# Altium footprint library Smartstrap_with_MAX30205.PcbLib: 21 footprints (part 2 of 2)
Each footprint in its own frame and in the unit in brackets; x right, y up, seen from the top. Pads: shape width x height; smd on the part's side, far side on the other; paste and mask are expansions set on the pad; w line width, h text height; cw(c..) or ccw(c..) is an arc to the next point about the centre after c.
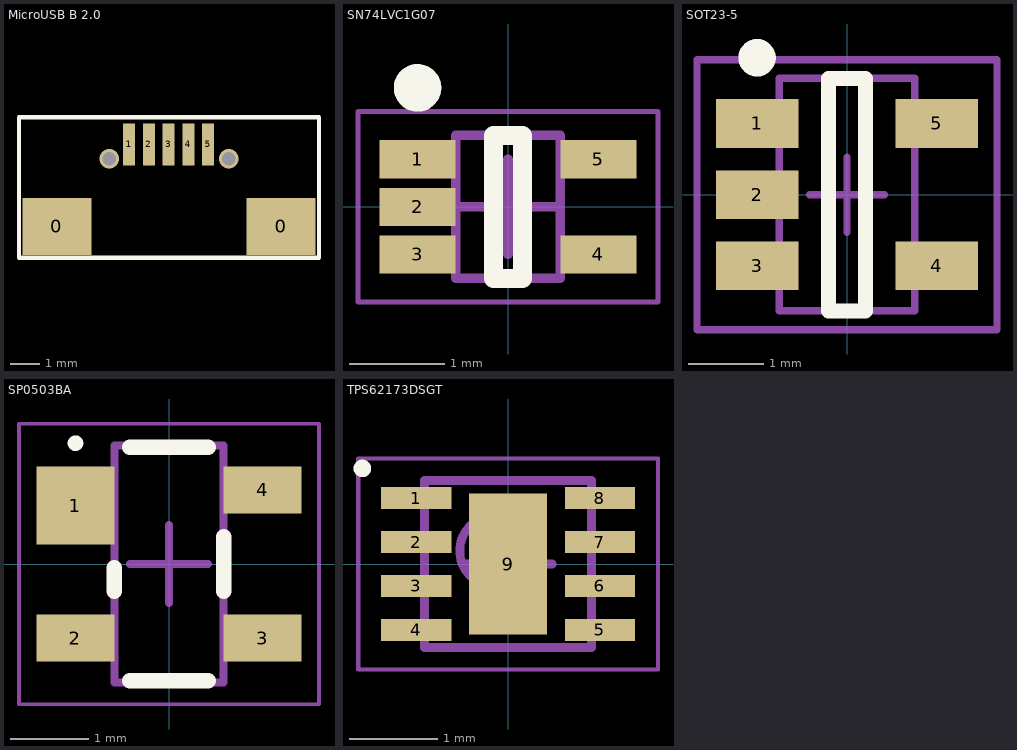
[diagram p1: the footprints below, top view; thin cyan lines are the x and y axes]

## MicroUSB B 2.0 [mm]
pads (7):
  rect 2.3x1.9 smd: 0(-98.933,-99.136) 0(-91.44,-99.136)
  rect 0.4x1.4 smd: 1(-96.52,-96.393) 2(-95.86,-96.393) 3(-95.199,-96.393) 4(-94.539,-96.393) 5(-93.878,-96.393)
via -97.18,-96.876 diameter 0.65 hole 0.45
via -93.193,-96.876 diameter 0.65 hole 0.45
Top Overlay:
  lines w0.15: -100.203,-100.178 -100.203,-95.479 -90.17,-95.479 -90.17,-100.178 -100.203,-100.178
3D body "User Library-MicroAB.STEP": height 2.89, standoff -0.11, extent -99.599,-101.993 -90.799,-96.393

## SN74LVC1G07 [mm] "SOT23, 5-Leads, Body 1,60x1,85mm, Pitch 0,50mm, IPC Medium Density"
height 0.6
pads (5):
  rect 0.8x0.4 smd: 1(-0.95,0.5) 2(-0.95,0) 3(-0.95,-0.5) 4(0.95,-0.5) 5(0.95,0.5)
Top Overlay:
  circle w0.25: c-0.95,1.25 r0.125
  lines w0.2: -0.15,-0.75 -0.15,0.75 0.15,0.75 0.15,-0.75 -0.15,-0.75
Mechanical 13:
  lines w0.1: -0.55,-0.75 0.55,-0.75 0.55,0.75 -0.55,0.75 -0.55,-0.75
Mechanical 15:
  lines w0.05: -1.575,-1 1.575,-1 1.575,1 -1.575,1 -1.575,-1
  lines w0.1: -0.5,0 0.5,0 ; 0,-0.5 0,0.5
3D body: height 0.6, standoff 0.18, extent -0.55,-0.75 0.55,0.75

## SOT23-5 [mm] "SOT23, 5-Leads, Body 2.9x1.6mm, Pitch 0.95mm, Lead Span 2.8mm, IPC Medium Density"
height 1.1
pads (5):
  rect 1.1x0.65 smd: 1(-1.2,0.95) 2(-1.2,0) 3(-1.2,-0.95) 4(1.2,-0.95) 5(1.2,0.95)
Top Overlay:
  circle w0.25: c-1.2,1.825 r0.125
  lines w0.2: -0.25,-1.55 0.25,-1.55 0.25,1.55 -0.25,1.55 -0.25,-1.55
Mechanical 13:
  lines w0.1: -0.9,-1.55 -0.9,1.55 0.9,1.55 0.9,-1.55 -0.9,-1.55
Mechanical 15:
  lines w0.1: -0.5,0 0.5,0 ; 0,-0.5 0,0.5 ; -2,-1.8 -2,1.8 2,1.8 2,-1.8 -2,-1.8
3D body "SW3dPS-TSOT23-5.STEP": height 0.94, standoff -0.02, extent -1.535,-1.46 1.655,1.44

## SP0503BA [mm] "SOT143, 4-Leads, Body 2,92x2,37mm, Pitch 1,90mm, IPC Medium Density"
height 1.22
pads (4):
  rect 1x1 smd: 1(-1.2,0.75)
  rect 1x0.6 smd: 2(-1.2,-0.95) 3(1.2,-0.95) 4(1.2,0.95)
Top Overlay:
  circle w0.1: c-1.2,1.55 r0.05
  lines w0.2: -0.7,-0.35 -0.7,-0.05 ; -0.5,-1.5 0.5,-1.5 ; -0.5,1.5 0.5,1.5 ; 0.7,-0.35 0.7,0.35
Mechanical 13:
  lines w0.1: -0.7,-1.52 0.7,-1.52 0.7,1.52 -0.7,1.52 -0.7,-1.52
Mechanical 15:
  lines w0.05: -1.925,-1.8 1.925,-1.8 1.925,1.8 -1.925,1.8 -1.925,-1.8
  lines w0.1: -0.5,0 0.5,0 ; 0,-0.5 0,0.5
3D body: height 1.22, standoff 0.15, extent -0.7,-1.52 0.7,1.52

## TPS62173DSGT [mm]
height 0.8
pads (9):
  rect 0.8x0.25 smd: 1(-1.045,0.75) 2(-1.045,0.25) 3(-1.045,-0.25) 4(-1.045,-0.75) 5(1.045,-0.75) 6(1.045,-0.25) 7(1.045,0.25) 8(1.045,0.75)
  rect 0.89x1.6 smd: 9(0,0)
Top Overlay:
  circle w0.1: c-1.657,1.087 r0.05
Mechanical 13:
  circle w0.1: c-0.15,0.15 r0.4
  lines w0.1: -0.95,-0.95 0.95,-0.95 0.95,0.95 -0.95,0.95 -0.95,-0.95
Mechanical 15:
  lines w0.05: -1.705,-1.2 1.705,-1.2 1.705,1.2 -1.705,1.2 -1.705,-1.2
  lines w0.1: -0.5,0 0.5,0 ; 0,-0.5 0,0.5
3D body: height 0.8, standoff 0.08, extent -0.95,-0.95 0.95,0.95